# Altium schematic symbol library IS61LV25616_TSOP44.SchLib: 1 symbol
Pins are listed as number, name and electrical type; pins without a type are passive.

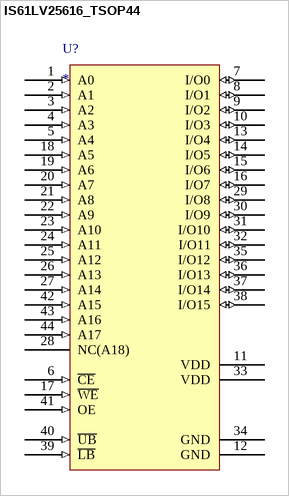
[diagram p0: symbol IS61LV25616_TSOP44]

## IS61LV25616_TSOP44
designator U?
pins: 1 A0 (in), 2 A1 (in), 3 A2  (in), 4 A3  (in), 5 A4  (in), 6 ~{CE} (in), 7 I/O0 (io), 8 I/O1 (io), 9 I/O2 (io), 10 I/O3 (io), 11 VDD (power), 12 GND (power), 13 I/O4 (io), 14 I/O5 (io), 15 I/O6 (io), 16 I/O7 (io), 17 ~{WE} (in), 18 A5  (in), 19 A6  (in), 20 A7  (in), 21 A8  (in), 22 A9  (in), 23 A10 (in), 24 A11 (in), 25 A12 (in), 26 A13 (in), 27 A14 (in), 28 NC(A18), 29 I/O8 (io), 30 I/O9 (io), 31 I/O10 (io), 32 I/O11 (io), 33 VDD (power), 34 GND (power), 35 I/O12 (io), 36 I/O13 (io), 37 I/O14 (io), 38 I/O15 (io), 39 ~{LB} (in), 40 ~{UB} (in), 41 OE  (in), 42 A15  (in), 43 A16  (in), 44 A17  (in)